# Altium schematic symbol library TPS62822.SchLib: 1 symbol
Pins are listed as number, name and electrical type; pins without a type are passive.

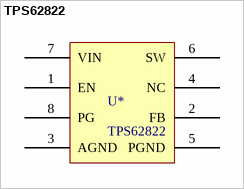
[diagram p0: symbol TPS62822]

## TPS62822
designator U*
MF: Texas Instruments; MP: TPS62822DLCR; datasheet link: http://www.ti.com/lit/ds/symlink/tps62822.pdf; Digikey number: 296-50424-1-ND; Package: 8-VFDFN; digikey link: https://www.digikey.com/product-detail/en/texas-instruments/TPS62822DLCR/296-50424-1-ND/9685563; Supplier 1: Digi-Key; Supplier Part Number 1: 296-50424-1-ND
footprint SON50P150X100_HS-9N (SON, 8-Leads, Body 2.00x1.50mm, Pitch 0.50mm, Thermal Pad 1.00x0.69mm, IPC Medium Density)
pins: 1 EN, 2 FB, 3 AGND, 4 NC, 5 PGND, 6 SW, 7 VIN, 8 PG